# EAGLE library part MAX3232 (library lantronix-wallplug)
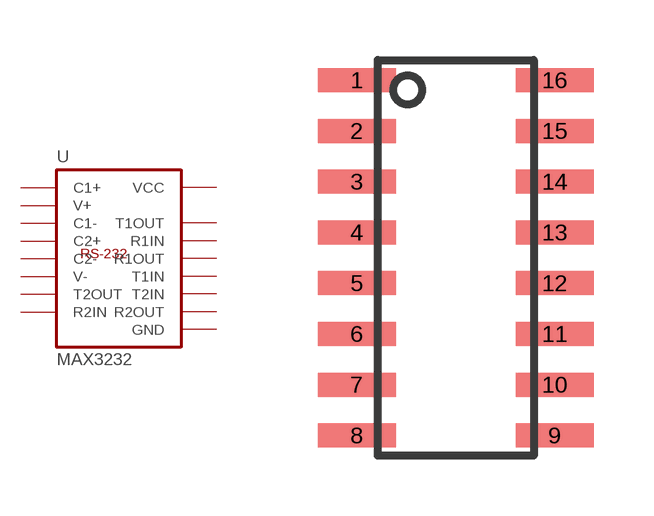
[diagram p1: symbol with the pads of SO16; footprint SO16]

Designator prefix U

## MAX3232  [SO16]
1  C1+
2  V+  pas
3  C1-
4  C2+
5  C2-
6  V-  pas
7  T2OUT  out
8  R2IN  in
9  R2OUT  out
10  T2IN  in
11  T1IN  in
12  R1OUT  out
13  R1IN  in
14  T1OUT  out
15  GND  pwr
16  VCC  pwr

## Footprint SO16 (pad centres in mm)
SOIC-16 narrow, 3.9 x 9.9 mm, 1.27 mm pitch (MAX3232)
smd 1.95 x 0.6: 1 -2.475,4.445; 2 -2.475,3.175; 3 -2.475,1.905; 4 -2.475,0.635; 5 -2.475,-0.635; 6 -2.475,-1.905; 7 -2.475,-3.175; 8 -2.475,-4.445; 9 2.475,-4.445; 10 2.475,-3.175; 11 2.475,-1.905; 12 2.475,-0.635; 13 2.475,0.635; 14 2.475,1.905; 15 2.475,3.175; 16 2.475,4.445